# EAGLE library part AT26DF081A (library m_misc)
Atmel 8-megabit 2.7-volt Minimum SPI Serial Flash Memory The AT26DF081A is a serial interface Flash memory device designed for use in a wide variety of high-volume consumer-based applications in which program code is shadowed from Flash memory into embedded or external RAM for execution. The flexible erase architecture of the AT26DF081A, with its erase granularity as small as 4 Kbytes, makes it ideal for data storage as well, eliminating the need for additional data storage EEPROM devices. The physical sectoring and the erase block sizes of the AT26DF081A have been optimized to meet the needs of today's code and data storage applications. By optimizing the size of the physical sectors and erase blocks, the memory space can be used much more efficiently. Because certain code modules and data storage segments must reside by themselves in their own protected sectors, the wasted and unused memory space that occurs with large sectored and large block erase Flash memory devices can be greatly reduced. This increased memory space efficiency allows additional code routines and data storage segments to be added while still maintaining the same overall device density. Single 2.7V - 3.6V Supply Serial Peripheral Interface (SPI) Compatible Supports SPI Modes 0 and 3 70 MHz Maximum Clock Frequency Flexible, Uniform Erase Architecture 4-Kbyte Blocks 32-Kbyte Blocks 64-Kbyte Blocks Full Chip Erase Individual Sector Protection with Global Protect/Unprotect Feature One 32-Kbyte Top Boot Sector Two 8-Kbyte Sectors One 16-Kbyte Sector Fifteen 64-Kbyte Sectors Hardware Controlled Locking of Protected Sectors Flexible Programming Options Byte/Page Program (1 to 256 Bytes) Sequential Program Mode Capability Automatic Checking and Reporting of Erase/Program Failures JEDEC Standard Manufacturer and Device ID Read Methodology Low Power Dissipation 5 mA Active Read Current (Typical) 25 ?A Deep Power-down Current (Typical) Endurance: 100,000 Program/Erase Cycles Data Retention: 20 Years Complies with Full Industrial Temperature Range Industry Standard Green (Pb/Halide-free/RoHS Compliant) Package Options 8-lead SOIC (150-mil and 200-mil wide)
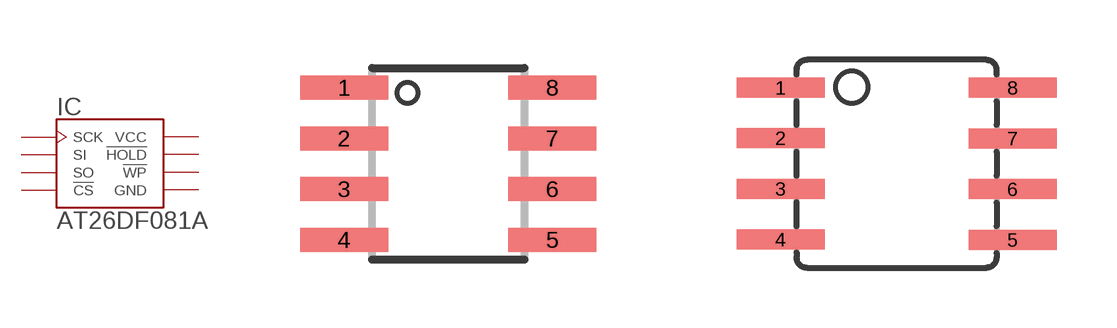
[diagram p32: symbol with the pads of SO08; footprints SO08, EIAJ-SOIC8]

Designator prefix IC

## AT26DF081A-SSU  [SO08]
1  !CS  pas
2  SO  out
3  !WP  pas
4  GND  pwr
5  SI  in
6  SCK  in
7  !HOLD  pas
8  VCC  pwr

## AT26DF081A-SU  [EIAJ-SOIC8]
Pads as for SO08

## Footprint SO08 (pad centres in mm)
Small Outline Package 8 NS Package M08A
smd 2.2 x 0.6: 1 -2.604,1.905; 2 -2.604,0.635; 3 -2.604,-0.635; 4 -2.604,-1.905; 5 2.604,-1.905; 6 2.604,-0.635; 7 2.604,0.635; 8 2.604,1.905

## Footprint EIAJ-SOIC8 (pad centres in mm)
Ateml 8S2, 8-lead, 0.208" Body, Plastic Small Outline Package (EIAJ)
smd 2.2 x 0.5: 1 -2.9,1.905; 2 -2.9,0.645; 3 -2.9,-0.625; 4 -2.9,-1.895; 5 2.9,-1.905; 6 2.9,-0.635; 7 2.9,0.635; 8 2.9,1.905